# Altium footprint library Connectors.PcbLib: 22 footprints (part 2 of 2)
Each footprint in its own frame and in the unit in brackets; x right, y up, seen from the top. Pads: shape width x height; smd on the part's side, far side on the other; paste and mask are expansions set on the pad; w line width, h text height; cw(c..) or ccw(c..) is an arc to the next point about the centre after c.
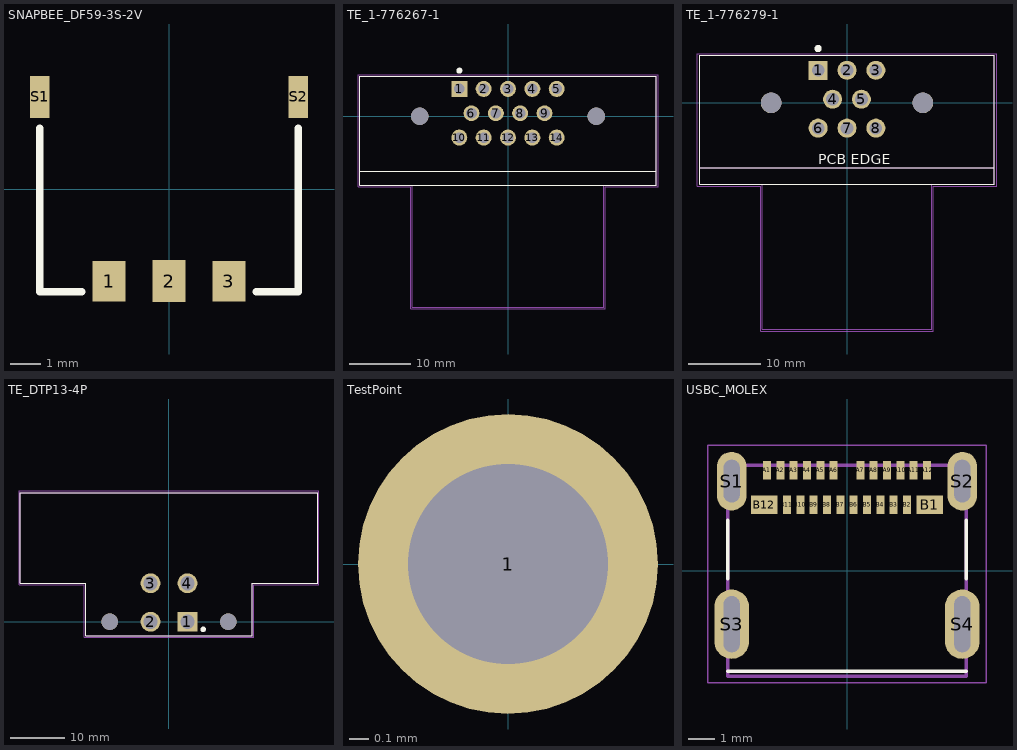
[diagram p1: the footprints below, top view; thin cyan lines are the x and y axes]

## SNAPBEE_DF59-3S-2V [mm] "CONN SSL RCPT 3POS 2MM SOLDER"
pads (5):
  rect 1.1x1.35 smd: 1(-2,-3.075) 3(2,-3.075)
  rect 1.1x1.4 smd: 2(0,-3.075)
  rect 0.65x1.4 smd: S1(-4.31,3.075) S2(4.31,3.075)
Top Overlay:
  lines w0.254: -4.318,2.032 -4.318,-3.429 -2.921,-3.429 ; 2.921,-3.429 4.318,-3.429 4.318,2.032
3D body "DF59-3S-2V.stp": height 2.31, standoff 0.01, extent -4.6,-3.429 4.6,4.521

## TE_1-776267-1 [mm] "AMPSEAL 14 Pin Right Angle Header"
pads (16):
  rect 2.625x2.625 hole 1.75: 1(-8,4.5)
  round 2.625 hole 1.75: 2(-4,4.5) 3(0,4.5) 4(4,4.5) 5(8,4.5) 6(-6,0.5) 7(-2,0.5) 8(2,0.5) 9(6,0.5) 10(-8,-3.5) 11(-4,-3.5) 12(0,-3.5) 13(4,-3.5) 14(8,-3.5)
  round 2.85 hole 2.85 unplated: ""(-14.5,0) ""(14.5,0)
Top Overlay:
  circle w0.5: c-8,7.5 r0.25
  lines w0.127: -24.4,-9 -24.4,6.55 24.4,6.55 24.4,-9 ; -24.4,-9 -24.4,-11.3 -15.7,-11.3 15.7,-11.3 24.4,-11.3 24.4,-9 ; -24.4,-9 24.4,-9
Mechanical 13:
  lines w0.127: -24.4,-9 -24.4,6.55 24.4,6.55 24.4,-9 ; -24.4,-9 -24.4,-11.3 -15.7,-11.3 ; -24.4,-9 24.4,-9 ; -15.7,-11.3 -15.7,-31.35 15.7,-31.35 15.7,-11.3 ; -15.7,-11.3 15.7,-11.3 ; 15.7,-11.3 24.4,-11.3 24.4,-9
  text "PCB EDGE" at -4.256,-8.762 h1.27
Mechanical 15:
  lines w0.05: -24.65,-11.55 -16,-11.55 -16,-31.65 16,-31.65 16,-11.55 24.65,-11.55 24.65,6.8 -24.65,6.8 -24.65,-11.55
3D body "c-1-776267-1-d-3d.stp": height 27.78, standoff -4.32, extent -24.4,-31.323 24.4,6.477

## TE_1-776279-1 [mm] "AMPSEAL 8 Pin Right Angle Header"
pads (10):
  rect 2.625x2.625 hole 1.75: 1(-4,4.5)
  round 2.625 hole 1.75: 2(0,4.5) 3(4,4.5) 4(-2,0.5) 5(2,0.5) 6(-4,-3.5) 7(0,-3.5) 8(4,-3.5)
  round 2.85 hole 2.85 unplated: ""(-10.5,0) ""(10.5,0)
Top Overlay:
  circle w0.5: c-4,7.5 r0.25
  lines w0.127: -20.4,-9 20.4,-9 ; -20.4,-9 -20.4,6.55 20.4,6.55 20.4,-9 ; -20.4,-9 -20.4,-11.3 11.7,-11.3 20.4,-11.3 20.4,-9
  text "PCB EDGE" at -4.008,-8.516 h1.43
Mechanical 13:
  lines w0.127: -20.4,-9 20.4,-9 ; -20.4,-9 -20.4,6.55 20.4,6.55 20.4,-9 ; -20.4,-9 -20.4,-11.3 -11.7,-11.3 ; -11.7,-11.3 -11.7,-31.35 11.7,-31.35 11.7,-11.3 ; -11.7,-11.3 11.7,-11.3 ; 11.7,-11.3 20.4,-11.3 20.4,-9
  text "PCB EDGE" at -4.002,-8.504 h1.42
Mechanical 15:
  lines w0.05: -20.75,-11.55 -11.95,-11.55 -11.95,-31.6 11.95,-31.6 11.95,-11.55 20.75,-11.55 20.75,6.8 -20.75,6.8 -20.75,-11.55
3D body "AMPSEAL-8P-RA.stp": height 27.78, standoff -4.32, extent -20.4,-31.369 20.4,6.431

## TE_DTP13-4P [mm]
pads (6):
  rect 3.606x3.606 hole 2.59: 1(3.355,0)
  round 3.606 hole 2.59: 2(-3.355,0) 3(-3.355,6.99) 4(3.355,6.99)
  round 2.99 hole 2.99 unplated: ""(-10.795,0) ""(10.795,0)
Top Overlay:
  circle w0.5: c6.223,-1.397 r0.25
  lines w0.127: -27.05,7 -15.115,7 -15.115,-2.54 15.115,-2.54 15.115,7 27.05,7 27.05,23.5 -27.05,23.5 -27.05,7
Mechanical 13:
  lines w0.127: -27.05,7 -15.115,7 -15.115,-2.54 15.115,-2.54 15.115,7 27.05,7 27.05,23.5 -27.05,23.5 -27.05,7
Mechanical 15:
  lines w0.05: -27.3,6.7 -27.3,23.8 27.3,23.8 27.3,6.7 15.4,6.7 15.4,-2.8 -15.4,-2.8 -15.4,6.7 -27.3,6.7
3D body "DTP13-4P-b-3d.stp": height 36.53, standoff -3.82, extent -27.051,-4.445 27.051,42.215

## TestPoint [mil]
pads (1):
  round 60 hole 40 mask+0: 1(0,0)

## USBC_MOLEX [mm] "105450-0101"
pads (28):
  rect 0.3x0.7 smd: A1(-3,3.77) A2(-2.5,3.77) A3(-2,3.77) A4(-1.5,3.77) A5(-1,3.77) A6(-0.5,3.77) A7(0.5,3.77) A8(1,3.77) A9(1.5,3.77) A10(2,3.77) A11(2.5,3.77) A12(3,3.77) B2(2.25,2.47) B3(1.75,2.47) B4(1.25,2.47) B5(0.75,2.47) B6(0.25,2.47) B7(-0.25,2.47) B8(-0.75,2.47) B9(-1.25,2.47) B10(-1.75,2.47) B11(-2.25,2.47)
  rect 1x0.7 smd: B1(3.1,2.47) B12(-3.1,2.47)
  oval 1.1x2.2 hole 0.6 slot 1.6 at 90 deg: S1(-4.32,3.36) S2(4.32,3.36)
  oval 1.3x2.6 hole 0.6 slot 2.1 at 90 deg: S3(-4.32,-2) S4(4.32,-2)
Top Overlay:
  lines w0.127: -4.47,-3.77 4.47,-3.77 ; -4.47,-0.3 -4.47,1.9 ; 4.47,-0.3 4.47,1.9
Mechanical 13:
  lines w0.127: -4.47,-3.95 -4.47,3.95 4.47,3.95 4.47,-3.95 -4.47,-3.95
Mechanical 15:
  lines w0.05: -5.22,-4.2 -5.22,4.71 5.22,4.71 5.22,-4.2 -5.22,-4.2
3D body "USBC_MOLEX.STEP": height 3.25, standoff -0.85, extent -4.47,-3.905 4.47,3.995